# Altium schematic symbol library WR-CRD.SchLib: 20 symbols
Pins are listed as number, name and electrical type; pins without a type are passive.

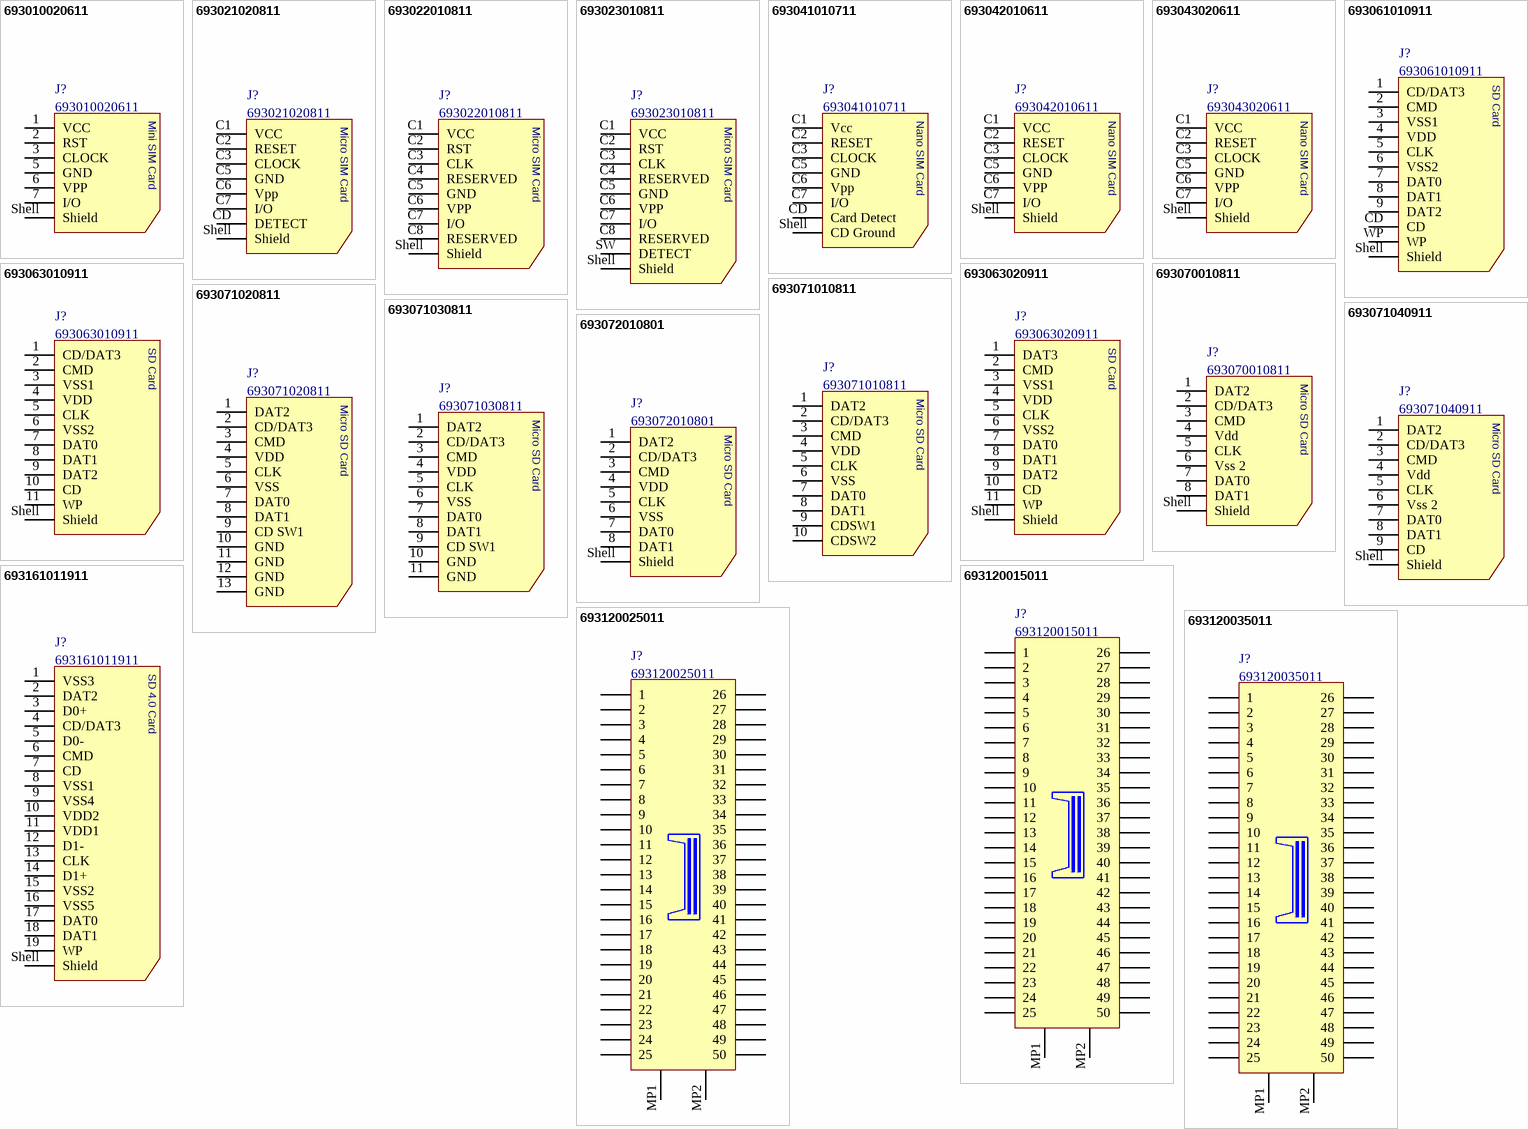
[diagram p0: symbols 693010020611 to 693161011911]

## 693010020611
designator J?
WR-CRD Mini SIM Card Connector Header Socket, 6 pins; Manufacturer: Wurth Elektronik; Durability: 5000 Mating cycles; Manufacturer Part Number: 693010020611; Category: Input/Output Connector; Match Code: WR-CRD; ComponentLink1Description: Website Link; ComponentLink1URL: https://www.we-online.com/redexpert/article/693010020611?ad; ComponentLink2Description: Datasheet Link; ComponentLink2URL: https://www.we-online.com/redexpert/spec/693010020611?ad; Mount: Surface Mount; Min Operating Temperature: -25 °C; Max Operating Temperature: 85 °C; Packaging: Tape and Reel; Application: Mini SIM Card; Gender: Socket; Number of Pins: 6; Type: Header
footprint 693010020611
pins: 1 VCC, 2 RST, 3 CLOCK, 5 GND, 6 VPP, 7 I/O, Shell Shield

## 693021020811
designator J?
WR-CRD Micro SIM Card Connector Push & Push Socket, 6 pins; Manufacturer: Wurth Elektronik; Durability: 5000 Mating cycles; Manufacturer Part Number: 693021020811; Category: Input/Output Connector; Match Code: WR-CRD; ComponentLink1Description: Website Link; ComponentLink1URL: https://www.we-online.com/redexpert/article/693021020811?ad; ComponentLink2Description: Datasheet Link; ComponentLink2URL: https://www.we-online.com/redexpert/spec/693021020811?ad; Mount: Surface Mount; Min Operating Temperature: -20 °C; Max Operating Temperature: 70 °C; Packaging: Tape and Reel; Application: Micro SIM Card; Gender: Socket; Number of Pins: 6; Type: Push & Push
footprint 693021020811
pins: C1 VCC, C2 RESET, C3 CLOCK, C5 GND, C6 Vpp, C7 I/O, CD DETECT, Shell Shield

## 693022010811
designator J?
WR-CRD SIM Card Connector Hinge Socket, 8 pins; Manufacturer: Wurth Elektronik; Durability: 2500 Mating cycles; Manufacturer Part Number: 693022010811; Category: Input/Output Connector; Match Code: WR-CRD; ComponentLink1Description: Website Link; ComponentLink1URL: https://www.we-online.com/redexpert/article/693022010811?ad; ComponentLink2Description: Datasheet Link; ComponentLink2URL: https://www.we-online.com/redexpert/spec/693022010811?ad; Mount: Surface Mount; Min Operating Temperature: -25 °C; Max Operating Temperature: 85 °C; Packaging: Tape and Reel; Application: Micro SIM Card; Gender: Socket; Number of Pins: 8; Type: Hinge
footprint 693022010811
pins: C1 VCC, C2 RST, C3 CLK, C4 RESERVED, C5 GND, C6 VPP, C7 I/O, C8 RESERVED, Shell Shield

## 693023010811
designator J?
WR-CRD SIM Card Connector Push & Pull Socket, 8 pins; Manufacturer: Wurth Elektronik; Durability: 5000 Mating cycles; Manufacturer Part Number: 693023010811; Category: Input/Output Connector; Match Code: WR-CRD; ComponentLink1Description: Website Link; ComponentLink1URL: https://www.we-online.com/redexpert/article/693023010811?ad; ComponentLink2Description: Datasheet Link; ComponentLink2URL: https://www.we-online.com/redexpert/spec/693023010811?ad; Mount: Surface Mount; Min Operating Temperature: -25 °C; Max Operating Temperature: 85 °C; Packaging: Tape and Reel; Application: Micro SIM Card; Gender: Socket; Number of Pins: 8; Type: Push & Pull
footprint 693023010811
pins: C1 VCC, C2 RST, C3 CLK, C4 RESERVED, C5 GND, C6 VPP, C7 I/O, C8 RESERVED, Shell Shield, SW DETECT

## 693041010711
designator J?
WR-CRD SIM Card Connector Push & Push Socket, 7 pins; Manufacturer: Wurth Elektronik; Durability: 10000 Mating cycles; Manufacturer Part Number: 693041010711; Category: Input/Output Connector; Match Code: WR-CRD; ComponentLink1Description: Website Link; ComponentLink1URL: https://www.we-online.com/redexpert/article/693041010711?ad; ComponentLink2Description: Datasheet Link; ComponentLink2URL: https://www.we-online.com/redexpert/spec/693041010711?ad; Mount: Surface Mount; Min Operating Temperature: -40 °C; Max Operating Temperature: 85 °C; Packaging: Tape and Reel; Application: Nano SIM Card; Gender: Socket; Number of Pins: 7; Type: Push & Push
footprint 693041010711
pins: C1 Vcc, C2 RESET, C3 CLOCK, C5 GND, C6 Vpp, C7 I/O, CD Card Detect, Shell CD Ground

## 693042010611
designator J?
WR-CRD SIM Card Connector Hinge Socket, 6 pins; Manufacturer: Wurth Elektronik; Durability: 5000 Mating cycles; Manufacturer Part Number: 693042010611; Category: Input/Output Connector; Match Code: WR-CRD; ComponentLink1Description: Website Link; ComponentLink1URL: https://www.we-online.com/redexpert/article/693042010611?ad; ComponentLink2Description: Datasheet Link; ComponentLink2URL: https://www.we-online.com/redexpert/spec/693042010611?ad; Mount: Surface Mount; Min Operating Temperature: -25 °C; Max Operating Temperature: 85 °C; Packaging: Tape and Reel; Application: Nano SIM Card; Gender: Socket; Number of Pins: 6; Type: Hinge
footprint 693042010611
pins: C1 VCC, C2 RESET, C3 CLOCK, C5 GND, C6 VPP, C7 I/O, Shell Shield

## 693043020611
designator J?
WR-CRD SIM Card Connector Push & Pull Socket, 6 pins; Manufacturer: Wurth Elektronik; Durability: 1500 Mating cycles; Manufacturer Part Number: 693043020611; Category: Input/Output Connector; Match Code: WR-CRD; ComponentLink1Description: Website Link; ComponentLink1URL: https://www.we-online.com/redexpert/article/693043020611?ad; ComponentLink2Description: Datasheet Link; ComponentLink2URL: https://www.we-online.com/redexpert/spec/693043020611?ad; Mount: Surface Mount; Min Operating Temperature: -25 °C; Max Operating Temperature: 85 °C; Packaging: Tape and Reel; Application: Nano SIM Card; Gender: Socket; Number of Pins: 6; Type: Push & Pull
footprint 693043020611
pins: C1 VCC, C2 RESET, C3 CLOCK, C5 GND, C6 VPP, C7 I/O, Shell Shield

## 693061010911
designator J?
WR-CRD SD Card Connector Push & Push Socket, 9 pins; Manufacturer: Wurth Elektronik; Durability: 10000 Mating cycles; Manufacturer Part Number: 693061010911; Category: Input/Output Connector; Match Code: WR-CRD; ComponentLink1Description: Website Link; ComponentLink1URL: https://www.we-online.com/redexpert/article/693061010911?ad; ComponentLink2Description: Datasheet Link; ComponentLink2URL: https://www.we-online.com/redexpert/spec/693061010911?ad; Mount: Surface Mount; Min Operating Temperature: -25 °C; Max Operating Temperature: 85 °C; Packaging: Tape and Reel; Application: SD Card; Gender: Socket; Number of Pins: 9; Type: Push & Push
footprint 693061010911
pins: 1 CD/DAT3, 2 CMD, 3 VSS1, 4 VDD, 5 CLK, 6 VSS2, 7 DAT0, 8 DAT1, 9 DAT2, CD, Shell Shield, WP

## 693063010911
designator J?
WR-CRD SD Card Connector Push & Pull Socket, 9 pins; Manufacturer: Wurth Elektronik; Durability: 10000 Mating cycles; Manufacturer Part Number: 693063010911; Category: Input/Output Connector; Match Code: WR-CRD; ComponentLink1Description: Website Link; ComponentLink1URL: https://www.we-online.com/redexpert/article/693063010911?ad; ComponentLink2Description: Datasheet Link; ComponentLink2URL: https://www.we-online.com/redexpert/spec/693063010911?ad; Mount: Surface Mount; Min Operating Temperature: -25 °C; Max Operating Temperature: 85 °C; Packaging: Tape and Reel; Application: SD Card; Gender: Socket; Number of Pins: 9; Type: Push & Pull
footprint 693063010911
pins: 1 CD/DAT3, 2 CMD, 3 VSS1, 4 VDD, 5 CLK, 6 VSS2, 7 DAT0, 8 DAT1, 9 DAT2, 10 CD, 11 WP, Shell Shield

## 693063020911
designator J?
WR-CRD SD Card Connector Push & Pull Socket, 9 pins; Manufacturer: Wurth Elektronik; Durability: 10000 Mating cycles; Manufacturer Part Number: 693063020911; Category: Input/Output Connector; Match Code: WR-CRD; ComponentLink1Description: Website Link; ComponentLink1URL: https://www.we-online.com/redexpert/article/693063020911?ad; ComponentLink2Description: Datasheet Link; ComponentLink2URL: https://www.we-online.com/redexpert/spec/693063020911?ad; Mount: Surface Mount; Min Operating Temperature: -25 °C; Max Operating Temperature: 85 °C; Packaging: Tape and Reel; Application: SD Card; Gender: Socket; Number of Pins: 9; Type: Push & Pull
footprint 693063020911
pins: 1 DAT3, 2 CMD, 3 VSS1, 4 VDD, 5 CLK, 6 VSS2, 7 DAT0, 8 DAT1, 9 DAT2, 10 CD, 11 WP, Shell Shield

## 693070010811
designator J?
WR-CRD SD Card Connector Push & Pull Socket, 8 pins; Manufacturer: Wurth Elektronik; Durability: 10000 Mating cycles; Manufacturer Part Number: 693070010811; Category: Input/Output Connector; Match Code: WR-CRD; ComponentLink1Description: Website Link; ComponentLink1URL: https://www.we-online.com/redexpert/article/693070010811?ad; ComponentLink2Description: Datasheet Link; ComponentLink2URL: https://www.we-online.com/redexpert/spec/693070010811?ad; Mount: Surface Mount; Min Operating Temperature: -25 °C; Max Operating Temperature: 85 °C; Packaging: Tape and Reel; Application: Micro SD Card; Gender: Socket; Number of Pins: 8; Type: Push & Pull
footprint 693070010811
pins: 1 DAT2, 2 CD/DAT3, 3 CMD, 4 Vdd, 5 CLK, 6 Vss 2, 7 DAT0, 8 DAT1, Shell Shield

## 693071010811
designator J?
WR-CRD SD Card Connector Push & Push Socket, 8 pins; Manufacturer: Wurth Elektronik; Durability: 10000 Mating cycles; Manufacturer Part Number: 693071010811; Category: Input/Output Connector; Match Code: WR-CRD; ComponentLink1Description: Website Link; ComponentLink1URL: https://www.we-online.com/redexpert/article/693071010811?ad; ComponentLink2Description: Datasheet Link; ComponentLink2URL: https://www.we-online.com/redexpert/spec/693071010811?ad; Mount: Surface Mount; Min Operating Temperature: -25 °C; Max Operating Temperature: 85 °C; Packaging: Tape and Reel; Application: Micro SD Card; Gender: Socket; Number of Pins: 8; Type: Push & Push
footprint 693071010811
pins: 1 DAT2, 2 CD/DAT3, 3 CMD, 4 VDD, 5 CLK, 6 VSS, 7 DAT0, 8 DAT1, 9 CDSW1, 10 CDSW2

## 693071020811
designator J?
WR-CRD SD Card Connector Push & Push Socket, 8 pins; Manufacturer: Wurth Elektronik; Durability: 10000 Mating cycles; Manufacturer Part Number: 693071020811; Category: Input/Output Connector; Match Code: WR-CRD; ComponentLink1Description: Website Link; ComponentLink1URL: https://www.we-online.com/redexpert/article/693071020811?ad; ComponentLink2Description: Datasheet Link; ComponentLink2URL: https://www.we-online.com/redexpert/spec/693071020811?ad; Mount: Surface Mount; Min Operating Temperature: -40 °C; Max Operating Temperature: 85 °C; Packaging: Tape and Reel; Application: Micro SD Card; Gender: Socket; Number of Pins: 8; Type: Push & Push
footprint 693071020811
pins: 1 DAT2, 2 CD/DAT3, 3 CMD, 4 VDD, 5 CLK, 6 VSS, 7 DAT0, 8 DAT1, 9 CD SW1 , 10 GND, 11 GND, 12 GND, 13 GND

## 693071030811
designator J?
WR-CRD SD Card Connector Push & Push Socket, 8 pins; Manufacturer: Wurth Elektronik; Durability: 10000 Mating cycles; Manufacturer Part Number: 693071030811; Category: Input/Output Connector; Match Code: WR-CRD; ComponentLink1Description: Website Link; ComponentLink1URL: https://www.we-online.com/redexpert/article/693071030811?ad; ComponentLink2Description: Datasheet Link; ComponentLink2URL: https://www.we-online.com/redexpert/spec/693071030811?ad; Mount: Surface Mount; Min Operating Temperature: -25 °C; Max Operating Temperature: 85 °C; Packaging: Tape and Reel; Application: Micro SD Card; Gender: Socket; Number of Pins: 8; Type: Push & Push
footprint 693071030811
pins: 1 DAT2, 2 CD/DAT3, 3 CMD, 4 VDD, 5 CLK, 6 VSS, 7 DAT0, 8 DAT1, 9 CD SW1 , 10 GND, 11 GND

## 693071040911
designator J?
WR-CRD SD Card Connector Push & Push Socket, 9 pins; Manufacturer: Wurth Elektronik; Durability: 10000 Mating cycles; Manufacturer Part Number: 693071040911; Category: Input/Output Connector; Match Code: WR-CRD; ComponentLink1Description: Website Link; ComponentLink1URL: https://www.we-online.com/redexpert/article/693071040911?ad; ComponentLink2Description: Datasheet Link; ComponentLink2URL: https://www.we-online.com/redexpert/spec/693071040911?ad; Mount: Surface Mount; Min Operating Temperature: -25 °C; Max Operating Temperature: 85 °C; Packaging: Tape and Reel; Application: Micro SD Card; Gender: Socket; Number of Pins: 9; Type: Push & Push
footprint 693071040911
pins: 1 DAT2, 2 CD/DAT3, 3 CMD, 4 Vdd, 5 CLK, 6 Vss 2, 7 DAT0, 8 DAT1, 9 CD, Shell Shield

## 693072010801
designator J?
WR-CRD SD Card Connector Hinge Socket, 8 pins; Manufacturer: Wurth Elektronik; Durability: 10000 Mating cycles; Manufacturer Part Number: 693072010801; Category: Input/Output Connector; Match Code: WR-CRD; ComponentLink1Description: Website Link; ComponentLink1URL: https://www.we-online.com/redexpert/article/693072010801?ad; ComponentLink2Description: Datasheet Link; ComponentLink2URL: https://www.we-online.com/redexpert/spec/693072010801?ad; Mount: Surface Mount; Min Operating Temperature: -25 °C; Max Operating Temperature: 85 °C; Packaging: Tape and Reel; Application: Micro SD Card; Gender: Socket; Number of Pins: 8; Type: Hinge
footprint 693072010801
pins: 1 DAT2, 2 CD/DAT3, 3 CMD, 4 VDD, 5 CLK, 6 VSS, 7 DAT0, 8 DAT1, Shell Shield

## 693120015011
designator J?
WR-CRD Compact Flash Card Connector Header 50 pins Header Socket, 50 pins; Manufacturer: Wurth Elektronik; Working Voltage: 50 V(AC); Manufacturer Part Number: 693120015011; Category: Input/Output Connector; Match Code: WR-CRD; ComponentLink1Description: Website Link; ComponentLink1URL: https://www.we-online.com/redexpert/article/693120015011?ad; ComponentLink2Description: Datasheet Link; ComponentLink2URL: https://www.we-online.com/redexpert/spec/693120015011?ad; Mount: Surface Mount; Min Operating Temperature: -25 °C; Max Operating Temperature: 85 °C; Packaging: Tape and Reel; Application: Compact Flash Card; Gender: Socket; Number of Pins: 50; Type: Header
footprint 693120015011
pins: 1, 2, 3, 4, 5, 6, 7, 8, 9, 10, 11, 12, 13, 14, 15, 16, 17, 18, 19, 20, 21, 22, 23, 24, 25, 26, 27, 28, 29, 30, 31, 32, 33, 34, 35, 36, 37, 38, 39, 40, 41, 42, 43, 44, 45, 46, 47, 48, 49, 50, MP1, MP2

## 693120025011
designator J?
WR-CRD Compact Flash Card Connector Header Reverse type 50 pins Header Socket, 50 pins; Manufacturer: Wurth Elektronik; Working Voltage: 100 V(AC); Manufacturer Part Number: 693120025011; Category: Input/Output Connector; Match Code: WR-CRD; ComponentLink1Description: Website Link; ComponentLink1URL: https://www.we-online.com/redexpert/article/693120025011?ad; ComponentLink2Description: Datasheet Link; ComponentLink2URL: https://www.we-online.com/redexpert/spec/693120025011?ad; Mount: Surface Mount; Min Operating Temperature: -25 °C; Max Operating Temperature: 85 °C; Packaging: Tape and Reel; Application: Compact Flash Card; Gender: Socket; Number of Pins: 50; Type: Header
footprint 693120025011
pins: 1, 2, 3, 4, 5, 6, 7, 8, 9, 10, 11, 12, 13, 14, 15, 16, 17, 18, 19, 20, 21, 22, 23, 24, 25, 26, 27, 28, 29, 30, 31, 32, 33, 34, 35, 36, 37, 38, 39, 40, 41, 42, 43, 44, 45, 46, 47, 48, 49, 50, MP1, MP2

## 693120035011
designator J?
WR-CRD Compact Flash Card Connector Header Shrouded type 50 pins Shrouded Socket, 50 pins; Manufacturer: Wurth Elektronik; Working Voltage: 100 V(AC); Manufacturer Part Number: 693120035011; Category: Input/Output Connector; Match Code: WR-CRD; ComponentLink1Description: Website Link; ComponentLink1URL: https://www.we-online.com/redexpert/article/693120035011?ad; ComponentLink2Description: Datasheet Link; ComponentLink2URL: https://www.we-online.com/redexpert/spec/693120035011?ad; Mount: Surface Mount; Min Operating Temperature: -25 °C; Max Operating Temperature: 85 °C; Packaging: Tape and Reel; Application: Compact Flash Card; Gender: Socket; Number of Pins: 50; Type: Shrouded
footprint 693120035011
pins: 1, 2, 3, 4, 5, 6, 7, 8, 9, 10, 11, 12, 13, 14, 15, 16, 17, 18, 19, 20, 21, 22, 23, 24, 25, 26, 27, 28, 29, 30, 31, 32, 33, 34, 35, 36, 37, 38, 39, 40, 41, 42, 43, 44, 45, 46, 47, 48, 49, 50, MP1, MP2

## 693161011911
designator J?
WR-CRD SD Card Connector Push & Pull Socket, 19 pins; Manufacturer: Wurth Elektronik; Durability: 10000 Mating cycles; Manufacturer Part Number: 693161011911; Category: Input/Output Connector; Match Code: WR-CRD; ComponentLink1Description: Website Link; ComponentLink1URL: https://www.we-online.com/redexpert/article/693161011911?ad; ComponentLink2Description: Datasheet Link; ComponentLink2URL: https://www.we-online.com/redexpert/spec/693161011911?ad; Mount: Surface Mount; Min Operating Temperature: -20 °C; Max Operating Temperature: 60 °C; Packaging: Tape and Reel; Application: SD 4.0 Card; Gender: Socket; Number of Pins: 19; Type: Push & Pull
footprint 693161011911
pins: 1 VSS3, 2 DAT2, 3 D0+, 4 CD/DAT3, 5 D0-, 6 CMD, 7 CD, 8 VSS1, 9 VSS4, 10 VDD2, 11 VDD1, 12 D1-, 13 CLK, 14 D1+, 15 VSS2, 16 VSS5, 17 DAT0, 18 DAT1, 19 WP, Shell Shield